# Altium footprint library TQFP-8014X14.PcbLib: 1 footprints
Each footprint in its own frame and in the unit in brackets; x right, y up, seen from the top. Pads: shape width x height; smd on the part's side, far side on the other; paste and mask are expansions set on the pad; w line width, h text height; cw(c..) or ccw(c..) is an arc to the next point about the centre after c.
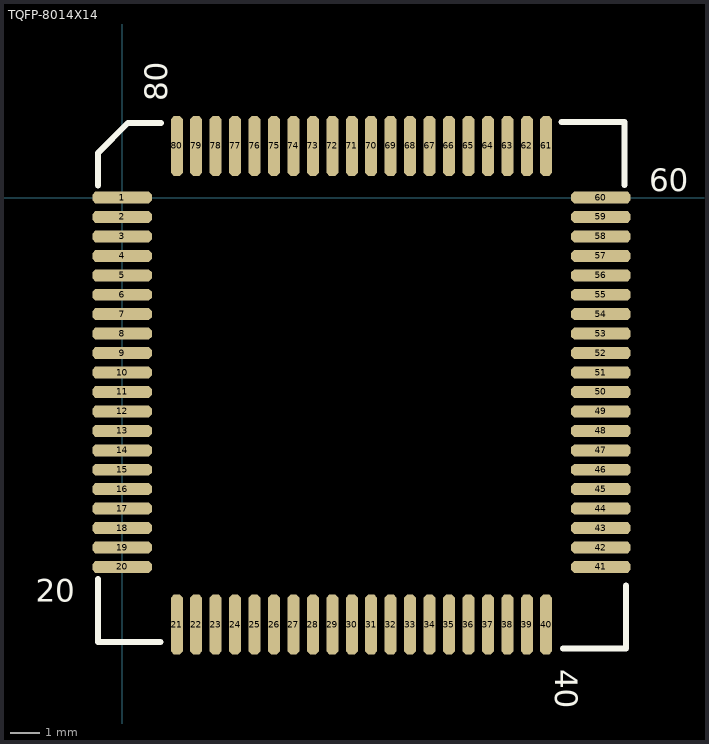
[diagram p0: the footprint, top view; thin cyan lines are the x and y axes]

## TQFP-8014X14 [mm]
height 3.048
pads (80):
  oct 2x0.4 smd: 1(0,0) 2(0,-0.65) 3(0,-1.3) 4(0,-1.95) 5(0,-2.6) 6(0,-3.25) 7(0,-3.9) 8(0,-4.55) 9(0,-5.2) 10(0,-5.85) 11(0,-6.5) 12(0,-7.15) 13(0,-7.8) 14(0,-8.45) 15(0,-9.1) 16(0,-9.75) 17(0,-10.4) 18(0,-11.05) 19(0,-11.7) 20(0,-12.35) 41(16,-12.35) 42(16,-11.7) 43(16,-11.05) 44(16,-10.4) 45(16,-9.75) 46(16,-9.1) 47(16,-8.45) 48(16,-7.8) 49(16,-7.15) 50(16,-6.5) 51(16,-5.85) 52(16,-5.2) 53(16,-4.55) 54(16,-3.9) 55(16,-3.25) 56(16,-2.6) 57(16,-1.95) 58(16,-1.3) 59(16,-0.65) 60(16,0)
  oct 0.4x2 smd: 21(1.825,-14.275) 22(2.475,-14.275) 23(3.125,-14.275) 24(3.775,-14.275) 25(4.425,-14.275) 26(5.075,-14.275) 27(5.725,-14.275) 28(6.375,-14.275) 29(7.025,-14.275) 30(7.675,-14.275) 31(8.325,-14.275) 32(8.975,-14.275) 33(9.625,-14.275) 34(10.275,-14.275) 35(10.925,-14.275) 36(11.575,-14.275) 37(12.225,-14.275) 38(12.875,-14.275) 39(13.525,-14.275) 40(14.175,-14.275) 61(14.175,1.727) 62(13.525,1.727) 63(12.875,1.727) 64(12.225,1.727) 65(11.575,1.727) 66(10.925,1.727) 67(10.275,1.727) 68(9.625,1.727) 69(8.975,1.727) 70(8.325,1.727) 71(7.675,1.727) 72(7.025,1.727) 73(6.375,1.727) 74(5.725,1.727) 75(5.075,1.727) 76(4.425,1.727) 77(3.775,1.727) 78(3.125,1.727) 79(2.475,1.727) 80(1.825,1.727)
TopOverlay:
  lines w0.2: -0.813,-12.751 -0.813,-14.851 1.287,-14.851 ; -0.805,0.395 -0.805,1.495 0.195,2.495 1.295,2.495 ; 14.684,2.521 16.784,2.521 16.784,0.421 ; 14.735,-15.069 16.835,-15.069 16.835,-12.969
  text "." at -1.981,-0.102 h1.27
  text "20" at -2.887,-13.509 h0.76
  text "40" at 14.475,-15.771 h0.76
  text "60" at 17.624,0.217 h0.76
  text "80" at 1.503,3.211 h0.76
Mechanical4:
  text ".047" at 0,0 h0.03